# EAGLE library part 74X4020-14BIT-COUNTER (library FlashPCB_ICs)
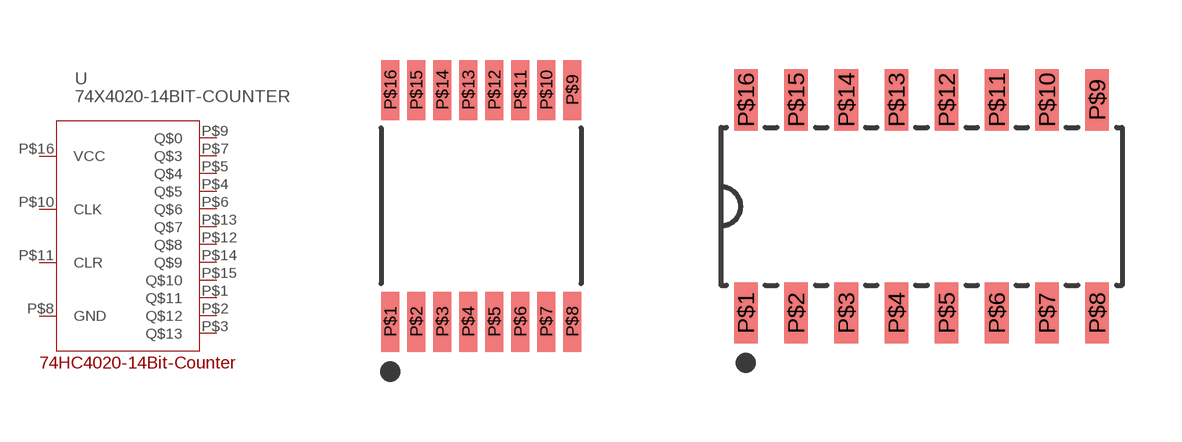
[diagram p3: symbol with the pads of 16-TSSOP; footprints 16-TSSOP, SOIC-16-150MIL-3.9MM]

Designator prefix U

## 74X4020-14BIT-COUNTERTSSOP-16  [16-TSSOP]
P$1  Q$11
P$2  Q$12
P$3  Q$13
P$4  Q$5
P$5  Q$4
P$6  Q$6
P$7  Q$3
P$8  GND
P$9  Q$0
P$10  CLK
P$11  CLR
P$12  Q$8
P$13  Q$7
P$14  Q$9
P$15  Q$10
P$16  VCC

## 74X4020-14BIT-COUNTERSOIC-16  [SOIC-16-150MIL-3.9MM]
Pads as for 16-TSSOP

## Footprint 16-TSSOP (pad centres in mm)
smd 0.45 x 1.5: P$1 -2.275,-2.9; P$2 -1.625,-2.9; P$3 -0.975,-2.9; P$4 -0.325,-2.9; P$5 0.325,-2.9; P$6 0.975,-2.9; P$7 1.625,-2.9; P$8 2.275,-2.9; P$9 2.275,2.9; P$10 1.625,2.9; P$11 0.975,2.9; P$12 0.325,2.9; P$13 -0.325,2.9; P$14 -0.975,2.9; P$15 -1.625,2.9; P$16 -2.275,2.9

## Footprint SOIC-16-150MIL-3.9MM (pad centres in mm)
smd 0.6 x 1.55: P$1 -4.445,-2.7; P$2 -3.175,-2.7; P$3 -1.905,-2.7; P$4 -0.635,-2.7; P$5 0.635,-2.7; P$6 1.905,-2.7; P$7 3.175,-2.7; P$8 4.445,-2.7; P$9 4.445,2.7; P$10 3.175,2.7; P$11 1.905,2.7; P$12 0.635,2.7; P$13 -0.635,2.7; P$14 -1.905,2.7; P$15 -3.175,2.7; P$16 -4.445,2.7